# EAGLE library part AP1509 (library BeagleBone_Blue_R3)
150KHz, 2A PWM BUCK DC/DC CONVERTER
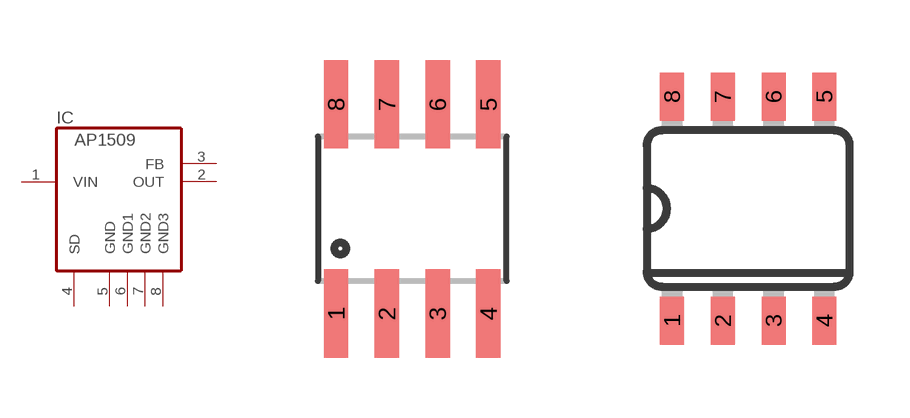
[diagram p16: symbol with the pads of SO08; footprints SO08, SO08-H]

Designator prefix IC

## AP1509 (OC_FARNELL: unknown; OC_NEWARK: unknown)  [SO08]
1  VIN  in
2  OUT  pwr
3  FB  pwr
4  SD  in
5  GND  pwr
6  GND1  in
7  GND2  pas
8  GND3  pwr

## AP1509SOIC-8-TIGHT  [SO08-H]
Pads as for SO08

## Footprint SO08 (pad centres in mm)
Small Outline Package Fits JEDEC packages (narrow SOIC-8)
smd 0.61 x 2.21: 1 -1.905,-2.616; 2 -0.635,-2.616; 3 0.635,-2.616; 4 1.905,-2.616; 5 1.905,2.616; 6 0.635,2.616; 7 -0.635,2.616; 8 -1.905,2.616

## Footprint SO08-H (pad centres in mm)
smd 0.6 x 1.2: 1 -1.905,-2.8; 2 -0.635,-2.8; 3 0.635,-2.8; 4 1.905,-2.8; 5 1.905,2.8; 6 0.635,2.8; 7 -0.635,2.8; 8 -1.905,2.8